# Altium schematic symbol library Fuses.SchLib: 3 symbols
Pins are listed as number, name and electrical type; pins without a type are passive.

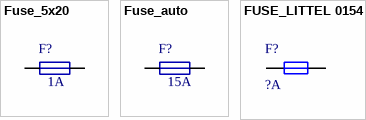
[diagram p0: symbols Fuse_5x20 to FUSE_LITTEL 0154]

## Fuse_5x20
designator F?, comment value 1A  (hidden comment: 5x20mm 1A)
footprint FUSE_5x20
pins: 1, 2

## Fuse_auto
designator F?, comment value 15A  (hidden comment: 0257015.PXPV, Elfa)
Answer: Holder: 01000057H, 33-156-52, ELFA x2
footprint Fuse_Auto
pins: 1, 2

## FUSE_LITTEL 0154
designator F?, comment ?A
Плавкий предохранитель LITTELFUSE 0154
footprint FUSE_LITTEL_0154
pins: 1, 2